# Altium schematic symbol library eUSR_SchLibrary - Fuses.SchLib: 2 symbols
Pins are listed as number, name and electrical type; pins without a type are passive.

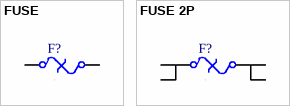
[diagram p0: symbols FUSE to FUSE 2P]

## FUSE
designator F?  (value not drawn)
ComponentLink1Description: Datasheet; ComponentLink2Description: Distributor Link
pins: 1, 2

## FUSE 2P
designator F?  (value not drawn)
ComponentLink1Description: Datasheet; ComponentLink2Description: Distributor Link
pins: 1, 2, 3, 4